# Altium schematic symbol library Miscellaneous Silicon.SchLib: 38 symbols
Pins are listed as number, name and electrical type; pins without a type are passive.

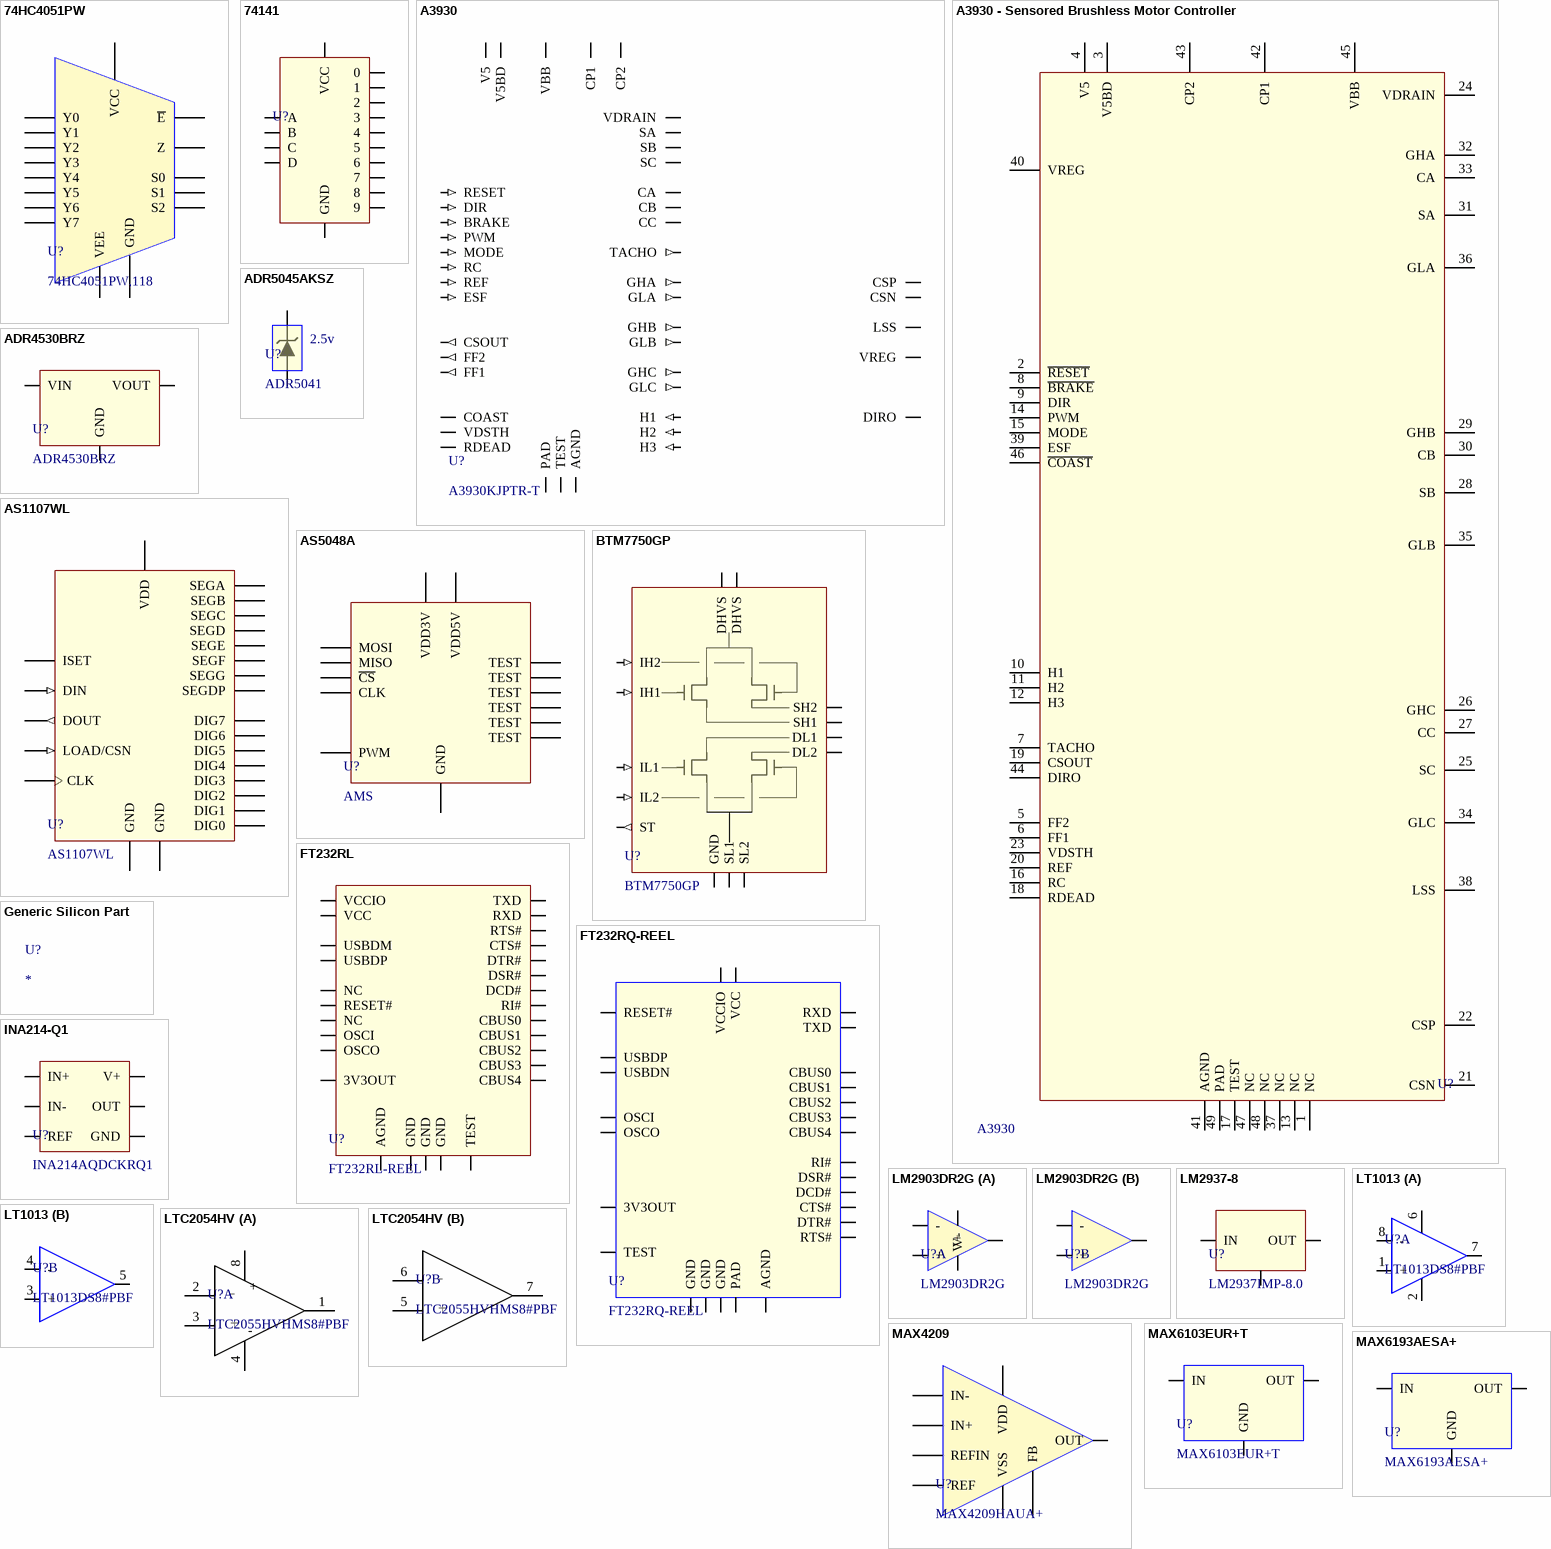
[diagram p0: symbols 74HC4051PW to MAX6193AESA+]

## 74HC4051PW
designator U?, comment 74HC4051PW,118
8:1 MUX/DEMUX; LOAD: NL; MFG: NXP; BANDWIDTH: 180MHz; MFG_PN: 74HC4051PW,118
footprint TSSOP16 (0.65mm Pitch)
pins: 1 Y4, 2 Y6, 3 Z, 4 Y7, 5 Y5, 6 ~{E}, 7 VEE, 8 GND, 9 S2, 10 S1, 11 S0, 12 Y3, 13 Y0, 14 Y1, 15 Y2, 16 VCC

## 74141
designator U?
Cold Cathode Tube Driver
footprint DIP16 (DIP; 16 Leads; Row Spacing 7.62 mm; Pitch 2.54 mm)
pins: 1 8, 2 9, 3 A, 4 D, 5 VCC (power), 6 B, 7 C, 8 2, 9 3, 10 7, 11 6, 12 GND (power), 13 4, 14 5, 15 1, 16 0

## A3930
designator U?, comment A3930KJPTR-T
BLDC Driver; MFG: ALEGRO MICROSYSTEMS; MFG_PN: A3930KJPTR-T; HelpURL: C:\Users\rharvey\Documents\Master Altium Library\Datasheets\A3930_BLDC DRIVER_ALLEGRO.pdf
pins: 1 NC hidden, 2 RESET (in), 3 V5BD, 4 V5, 5 FF2 (out), 6 FF1 (out), 7 TACHO (out), 8 BRAKE (in), 9 DIR (in), 10 H1 (in), 11 H2 (in), 12 H3 (in), 13 NC hidden, 14 PWM (in), 15 MODE (in), 16 RC (in), 17 TEST, 18 RDEAD, 19 CSOUT (out), 20 REF (in), 21 CSN, 22 CSP, 23 VDSTH, 24 VDRAIN, 25 SC, 26 GHC (out), 27 CC, 28 SB, 29 GHB (out), 30 CB, 31 SA, 32 GHA (out), 33 CA, 34 GLC (out), 35 GLB (out), 36 GLA (out), 37 NC hidden, 38 LSS, 39 ESF (in), 40 VREG, 41 AGND, 42 CP1, 43 CP2, 44 DIRO, 45 VBB, 46 COAST, 47 NC hidden, 48 NC hidden, 49 PAD

## A3930 - Sensored Brushless Motor Controller
designator U?  MFG1_PN: A3930  (hidden comment: A3930 - Sensored Brushless Motor Controller)
SAP: 1052642-00-A; MFG1: Allegro; Supplier 1: Digi-Key; Supplier Part Number 1: A3930KJP-T-ND
footprint QFP50P900X900X160-49N (JEDEC MS-026 BBCHD (ALLEGRO JP 48pin LQFP W/Thermal Pad))
pins: 1 NC, 2 ~{RESET}, 3 V5BD, 4 V5, 5 FF2, 6 FF1, 7 TACHO, 8 ~{BRAKE}, 9 DIR, 10 H1, 11 H2, 12 H3, 13 NC, 14 PWM, 15 MODE, 16 RC, 17 TEST, 18 RDEAD, 19 CSOUT, 20 REF, 21 CSN, 22 CSP, 23 VDSTH, 24 VDRAIN, 25 SC, 26 GHC, 27 CC, 28 SB, 29 GHB, 30 CB, 31 SA, 32 GHA, 33 CA, 34 GLC, 35 GLB, 36 GLA, 37 NC, 38 LSS, 39 ESF, 40 VREG, 41 AGND, 42 CP1, 43 CP2, 44 DIRO, 45 VBB, 46 ~{COAST}, 47 NC, 48 NC, 49 PAD

## ADR4530BRZ
designator U?
Precision 3v Voltage Reference; LOAD: NL; VIN_MAX: 16v; ACCURACY: 600uV; MFG: ANALOG_DEVICES; MFG_PN: ADR4530BRZ; VOUT: 3v
footprint SOIC-8
pins: 1 NC hidden, 2 VIN, 3 NC hidden, 4 GND, 5 NC hidden, 6 VOUT, 7 NC hidden, 8 TP hidden

## ADR5045AKSZ
designator U?, comment ADR5041  VOLTAGE: 2.5v
Precision 5v Reference; LOAD: NL; MFG: ANALOG DEVICES; IMIN: 15uA; IMAX: 15mA; MFG_PN: ADR5041BKSZ-REEL7
footprint SOT23-3M
pins: 1 A, 2 K, 3 NC hidden

## AS1107WL
designator U?
SPI Controlled 7-Segment Display; MFG_PN: AS1107WL; AMS: AMS
footprint SOIC24
pins: 1 DIN (in), 2 DIG0, 3 DIG4, 4 GND, 5 DIG6, 6 DIG2, 7 DIG3, 8 DIG7, 9 GND, 10 DIG5, 11 DIG1, 12 LOAD/CSN (in), 13 CLK, 14 SEGA, 15 SEGF, 16 SEGB, 17 SEGG, 18 ISET, 19 VDD, 20 SEGC, 21 SEGE, 22 SEGDP, 23 SEGD, 24 DOUT (out)

## AS5048A
designator U?, comment AMS
14bit Rotational Hall Effect Sensor; MFG_PN: AS5048A-HTSP-500; MFG: AMS
footprint TSSOP14 (0.65mm Pitch)
pins: 1 ~{CS}, 2 CLK, 3 MISO, 4 MOSI, 5 TEST, 6 TEST, 7 TEST, 8 TEST, 9 TEST, 10 TEST, 11 VDD5V, 12 VDD3V, 13 GND, 14 PWM

## BTM7750GP
designator U?
H-Bridge_40v_12A; MFG: INFINEON; RDSON_MAX: 115m; MAX_CURRENT: 12A; VMAX: 40v; MFG_PN: BTM7750GP
footprint P-TO263-15-1
pins: 1 IL1 (in), 2 NC hidden, 3 SL1, 4 NC hidden, 5 SH1, 6 GND, 7 IH1 (in), 8 DHVS, 9 ST (out), 10 IH2 (in), 11 SH2, 12 NC hidden, 13 IL2 (in), 14 NC hidden, 15 SL2, 16 DL2, 17 DHVS, 18 DL1

## FT232RL
designator U?, comment FT232RL-REEL
UART Interface/Bridge; MFG: FTDI; MFG_PN: FT232RL-REEL
footprint SSOP-28
pins: 1 TXD, 2 DTR#, 3 RTS#, 4 VCCIO, 5 RXD, 6 RI#, 7 GND, 8 NC, 9 DSR#, 10 DCD#, 11 CTS#, 12 CBUS4, 13 CBUS2, 14 CBUS3, 15 USBDP, 16 USBDM, 17 3V3OUT, 18 GND, 19 RESET#, 20 VCC, 21 GND, 22 CBUS1, 23 CBUS0, 24 NC, 25 AGND, 26 TEST, 27 OSCI, 28 OSCO

## FT232RQ-REEL
designator U?
UART Interface/Bridge; MFG: FTDI; MFG_PN: FT232RQ-REEL
footprint QFN32
pins: 0 PAD, 1 VCCIO, 2 RXD, 3 RI#, 4 GND, 5 NC hidden, 6 DSR#, 7 DCD#, 8 CTS#, 9 CBUS4, 10 CBUS2, 11 CBUS3, 12 NC hidden, 13 NC hidden, 14 USBDP, 15 USBDN, 16 3V3OUT, 17 GND, 18 RESET#, 19 VCC, 20 GND, 21 CBUS1, 22 CBUS0, 23 NC hidden, 24 AGND, 25 NC hidden, 26 TEST, 27 OSCI, 28 OSCO, 29 NC hidden, 30 TXD, 31 DTR#, 32 RTS#

## Generic Silicon Part
designator U?
MFG: *; MFG_PN: *; FUNCTION: *

## INA214-Q1
designator U?, comment INA214AQDCKRQ1
Current Shunt Monitor; MFG: TI; VMAX: 26v; MFG_PN: INA214AQDCKRQ1
footprint SOT23-6
pins: 1 REF, 2 GND, 3 V+, 4 IN+, 5 IN-, 6 OUT

## LM2903DR2G
designator U?
Dual Comparator - Open Collector; MFG: ON SEMI; VMAX: 36v; VMIN: 2v; MFG_PN: LM2903DR2G; FUNCTION: *
footprint SOIC-8
part A pins: 1 OUT1, 2 -, 3 +, 4 V-, 8 V+
part B pins: 5 +, 6 -, 7 OUT

## LM2937-8
designator U?, comment LM2937IMP-8.0
LDO_8v Fixed_500mA; MFG: TI; IMAX: 500mA; VOUT: 8v; LOAD: NL; MFG_PN: LM2937IMP-8.0
footprint SOT223
pins: 1 IN, 2 GND, 3 OUT, 4

## LT1013
designator U?, comment LT1013DS8#PBF
Op-Amp_Dual_Single/Dual Supply; MFG: LINEAR TECHNOLOGY; MFG_PN: LT1013DS8#PBF
footprint SOIC-8
part A pins: 1 +, 2 V-, 6 V+, 7 OUTA, 8 -
part B pins: 3 +, 4 -, 5 OUTB

## LTC2054HV
designator U?, comment LTC2055HVHMS8#PBF
Low Offset, Chopper Stabilized Amplifier; MFG: LINEAR TECHNOLOGY; GAIN_BANDWIDTH: 500kHz; SINGLE_SUPPLY: YES; MFG_PN: LTC2055HVHMS8#PBF
part A pins: 1 OUT A, 2 IN-, 3 IN+, 4 V-, 8 V+
part B pins: 5 IN+, 6 IN-, 7 OUT A
part A text: +; -
part B text: -; +

## MAX4209
designator U?, comment MAX4209HAUA+
Instrumentation Amplifier; MFG: MAXIM; GBP: 750KhZ; IN_BIAS_CURRENT: 1pA; IN_OFFSET_VOLTAGE: 3uV; GAIN: 100V/V; IOUT_MAX: 25mA; I_QUIESCENT: 3mA; MFG_PN: MAX4209HAUA+
footprint uMAX8
pins: 1 REFIN, 2 IN-, 3 IN+, 4 VSS, 5 REF, 6 FB, 7 OUT, 8 VDD

## MAX6103EUR+T
designator U?
Precision 3v Reference; MFG: MAXIM; ACCURACY: 0.4%; LOAD: NL; MFG_PN: MAX6103EUR+T; VOUT: 3v
footprint SOT23-3M
pins: 1 IN, 2 OUT, 3 GND

## MAX6193AESA+
designator U?
Precision 3v Reference; MFG: MAXIM; ACCURACY: 0.066%; LOAD: NL; MFG_PN: MAX6193AESA+; VOUT: 3v
footprint SOIC-8 Narrow
pins: 1 NC hidden, 2 IN, 3 NC hidden, 4 GND, 5 NC hidden, 6 OUT, 7 NC hidden, 8 NC hidden

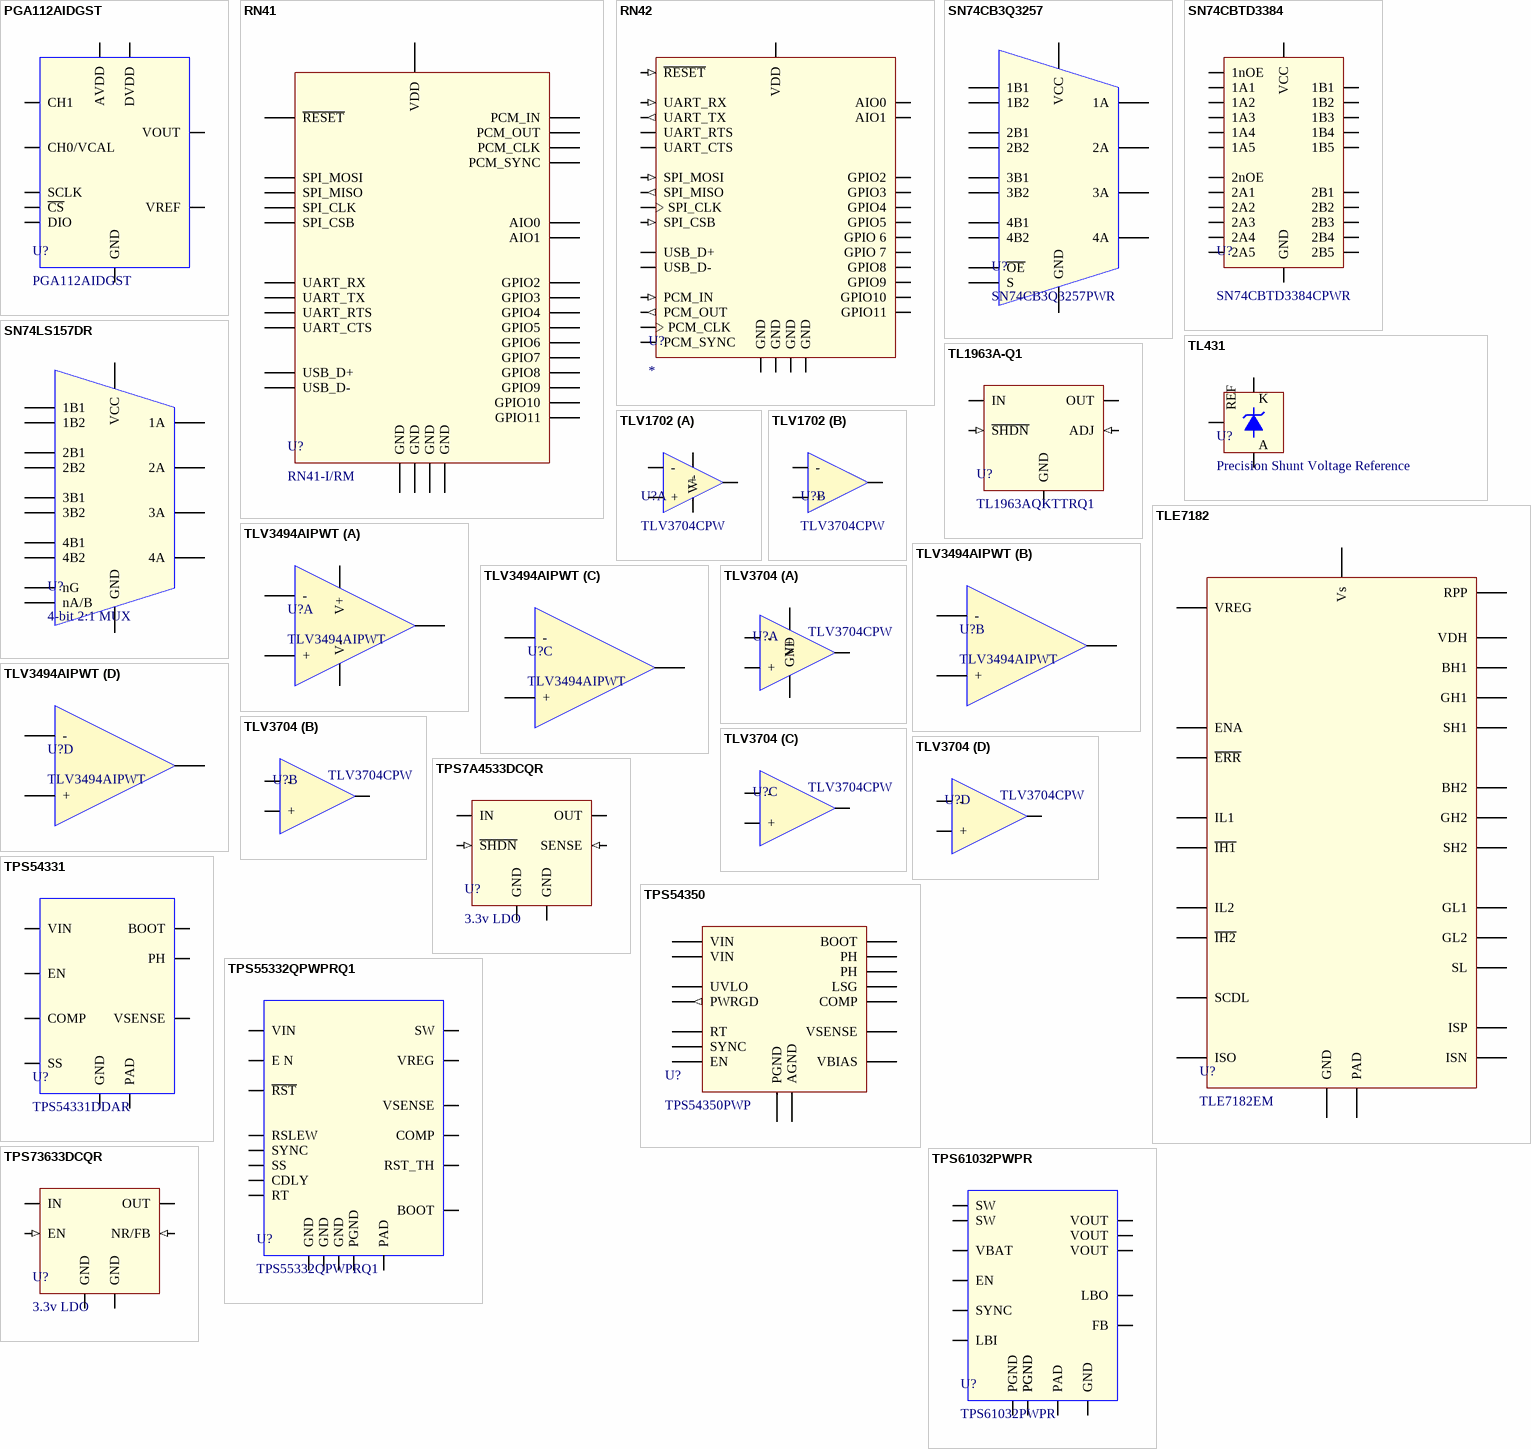
[diagram p1: symbols PGA112AIDGST to TPS73633DCQR]

## PGA112AIDGST
designator U?
Inst Amp with PGA and SPI; MFG: TI; FUNCTION: INST_AMP; MFG_PN: PGA112AIDGST
footprint VSSOP-10
pins: 1 AVDD, 2 CH1, 3 CH0/VCAL, 4 VREF, 5 VOUT, 6 GND, 7 SCLK, 8 DIO, 9 ~{CS}, 10 DVDD

## RN41
designator U?, comment RN41-I/RM
2.4GHz Class 1 Bluetooth Module; MFG: MICROCHIP; MFG_PN: RN41-I/RM
footprint RN41 (2.4GHz Class 1 Bluetooth Module)
pins: 1 GND, 2 SPI_MOSI, 3 GPIO6, 4 GPIO7, 5 ~{RESET}, 6 SPI_CLK, 7 PCM_CLK, 8 PCM_SYNC, 9 PCM_IN, 10 PCM_OUT, 11 VDD, 12 GND, 13 UART_RX, 14 UART_TX, 15 UART_RTS, 16 UART_CTS, 17 USB_D+, 18 USB_D-, 19 GPIO2, 20 GPIO3, 21 GPIO5, 22 GPIO4, 23 SPI_CSB, 24 SPI_MISO, 28 GND, 29 GND, 30 AIO0, 31 GPIO8, 32 GPIO9, 33 GPIO10, 34 GPIO11, 35 AIO1

## RN42
designator U?
Bluetooth Module; MFG: Roving Networks; MFG_PN: RN42-I/RM
footprint RN42 Bluetooth Module
pins: 1 GND (power), 2 SPI_MOSI (in), 3 GPIO 6, 4 GPIO 7, 5 ~{RESET} (in), 6 SPI_CLK, 7 PCM_CLK, 8 PCM_SYNC, 9 PCM_IN (in), 10 PCM_OUT (out), 11 VDD (power), 12 GND (power), 13 UART_RX (in), 14 UART_TX (out), 15 UART_RTS, 16 UART_CTS, 17 USB_D+ (io), 18 USB_D- (io), 19 GPIO2, 20 GPIO3, 21 GPIO5, 22 GPIO4, 23 SPI_CSB (in), 24 SPI_MISO (out), 28 GND (power), 29 GND (power), 30 AIO0, 31 GPIO8, 32 GPIO9, 33 GPIO10, 34 GPIO11, 35 AIO1

## SN74CB3Q3257
designator U?, comment SN74CB3Q3257PWR
Bi-directional 4-bit 2:1 MUX (3.3v); MFG: TI; MFG_PN: SN74CB3Q3257PWR; FUNCTION: 4-bit 2:1 MUX; OP_VOLTAGE: 3.3v
footprint TSSOP16 (0.65mm Pitch)
pins: 1 S, 2 1B1, 3 1B2, 4 1A, 5 2B1, 6 2B2, 7 2A, 8 GND (power), 9 3A, 10 3B2, 11 3B1, 12 4A, 13 4B2, 14 4B1, 15 ~{OE}, 16 VCC (power)

## SN74CBTD3384
designator U?, comment MFG_PN: SN74CBTD3384CPWR  (hidden comment: 10-bit FET Bus Switch)
10-bit FET Data Bus; MFG: TI; FUNCTION: 10-bit FET Bus Switch
footprint TSSOP24
pins: 1 1nOE, 2 1B1, 3 1A1, 4 1A2, 5 1B2, 6 1B3, 7 1A3, 8 1A4, 9 1B4, 10 1B5, 11 1A5, 12 GND (power), 13 2nOE, 14 2A1, 15 2B1, 16 2B2, 17 2A2, 18 2A3, 19 2B3, 20 2B4, 21 2A4, 22 2A5, 23 2B5, 24 VCC (power)

## SN74LS157DR
designator U?, comment 4-bit 2:1 MUX
4-bit 2:1 MUX (5v); MFG: TI; MFG_PN: SN74LS157DR; FUNCTION: 4-bit 2:1 MUX; OP_VOLTAGE: 5v
footprint SOIC16 (1.27mm Pitch)
pins: 1 nA/B, 2 1B1, 3 1B2, 4 1A, 5 2B1, 6 2B2, 7 2A, 8 GND (power), 9 3A, 10 3B2, 11 3B1, 12 4A, 13 4B2, 14 4B1, 15 nG, 16 VCC (power)

## TL431
designator U?, comment Precision Shunt Voltage Reference
Voltage Reference; MFG: TI; MFG_PN: TL431BCDBZR; FUNCTION: Precision Shunt Voltage Reference
footprint SOT23-3M
pins: 1 K (power), 2 REF (power), 3 A (power)

## TL1963A-Q1
designator U?, comment TL1963AQKTTRQ1
1.5A Adjustable LDO; MFG: TI; AEC_QUALIFIED: YES; MFG_PN: TL1963AQKTTRQ1; CURRENT: 1.5A
footprint D2PAK-5
pins: 1 ~{SHDN} (in), 2 IN, 3 GND, 4 OUT, 5 ADJ (in)

## TLE7182
designator U?, comment TLE7182EM
Full Bridge Gate Driver; MFG: INFINEON; LOAD: NL; MFG_PN: TLE7182EM
footprint PG-SSOP24
pins: 1 BH2, 2 GH2, 3 SH2, 4 GL2, 5 VDH, 6 RPP, 7 Vs, 8 VREG, 9 ENA, 10 ISN, 11 ISP, 12 ISO, 13 ~{IH2}, 14 IL2, 15 ~{IH1}, 16 IL1, 17 ~{ERR}, 18 SCDL, 19 GND, 20 SL, 21 GL1, 22 SH1, 23 GH1, 24 BH1, 25 PAD

## TLV1702
designator U?, comment TLV3704CPW
Dual Comparator; LOAD: NL; MFG: TI; VMAX: 36v; VMIN: 2.5v; OUPUT: Open Collector; MFG_PN: TLV3704CPW
footprint VSSOP8 (3.1x3.1mm)
part A pins: 1 OUT1, 2 -, 3 +, 4 V- (power), 8 V+ (power)
part B pins: 5 +, 6 -, 7 OUT2

## TLV3494AIPWT
designator U?
Quad Comparator - Push-Pull Output; MFG: TI; CHANNELS: 4; LOAD: NL; VMAX: 5.5v; MFG_PN: TLV3494AIPWT
footprint TSSOP14 (0.65mm Pitch)
part A pins: 1 OUTA, 2 -, 3 +, 4 V+, 11 V-
part B pins: 5 +, 6 -, 12 OUTB
part C pins: 8 OUTC, 9 -, 10 +
part D pins: 12 +, 13 -, 14 OUTD

## TLV3704
designator U?, comment MFG_PN: TLV3704CPW  (hidden comment: Quad Comparator)
Quad Comparator - Push-Pul; MFG: TI; FUNCTION: Quad Comparator
footprint TSSOP14 (0.65mm Pitch)
part A pins: 1 OUT1, 2 -, 3 +, 4 V+ (power), 11 GND (power)
part B pins: 5 +, 6 -, 7 OUT2
part C pins: 8 OUT3, 9 -, 10 +
part D pins: 12 +, 13 -, 14 OUT4

## TPS7A4533DCQR
designator U?, comment 3.3v LDO
MFG: TI; MFG_PN: TPS7A4533DCQR; FUNCTION: 3.3v LDO
footprint SOT-223-6
pins: 1 ~{SHDN} (in), 2 IN (power), 3 GND (power), 4 OUT (power), 5 SENSE (in), 6 GND (power)

## TPS54331
designator U?, comment TPS54331DDAR
Buck Converter - Adj. Output - 3A Max; MFG: TI; VOUT: ADJ; VIN_MAX: 28v; LOAD: NL; MFG_PN: TPS54331DDAR; CURRENT: 3A
footprint HSOP-8
pins: 1 BOOT, 2 VIN, 3 EN, 4 SS, 5 VSENSE, 6 COMP, 7 GND, 8 PH, 9 PAD

## TPS54350
designator U?, comment TPS54350PWP
4.5v-20v Input, 3A Output Synchronous PWM Switching Buck Converter; MFG: TI; V_INPUT: 4.5-20v; MFG_PN: TPS54350PWP; I_MAX: 3A
footprint HTSSOP16 (0.65mm Pitch)
pins: 0 PAD hidden to GND, 1 VIN, 2 VIN, 3 UVLO, 4 PWRGD (out) "Open Drain", 5 RT, 6 SYNC, 7 EN, 8 COMP, 9 VSENSE, 10 AGND, 11 PGND, 12 VBIAS, 13 LSG, 14 PH, 15 PH, 16 BOOT

## TPS55332QPWPRQ1
designator U?
Boost Converter - Wide Input Voltage; LOAD: NL; MFG: TI; VIN_MAX: 40v; VIN_MIN: 1.5v; VOUT_MAX: 50V; VOUT_MIN: 2.5v; SWITCH_CURRENT: 5.7A; MFG_PN: TPS55332QPWPRQ1
footprint HTSSOP-20
pins: 0 PAD, 1 NC hidden to GND, 2 NC hidden to GND, 3 SYNC, 4 GND, 5 E N, 6 RT, 7 RSLEW, 8 ~{RST}, 9 CDLY, 10 GND, 11 SS, 12 GND, 13 RST_TH, 14 VSENSE, 15 COMP, 16 VREG, 17 PGND, 18 SW, 19 VIN, 20 BOOT

## TPS61032PWPR
designator U?
Boost Converter - 5v Output - 1A; LOAD: NL; MFG: TI; VIN_MAX: 5.5v; VIN_MIN: 1.8V; MFG_PN: TPS61032PWPR; CURRENT: 1A; VOUT: 5v
footprint HTSSOP16 (0.65mm Pitch)
pins: 0 PAD, 1 SW, 2 SW, 3 PGND, 4 PGND, 5 PGND, 6 VBAT, 7 LBI, 8 SYNC, 9 EN, 10 LBO, 11 GND, 12 FB, 13 VOUT, 14 VOUT, 15 VOUT, 16 NC hidden

## TPS73633DCQR
designator U?, comment 3.3v LDO
MFG: TI; MFG_PN: TPS73633DCQR; FUNCTION: 3.3v LDO
footprint SOT-223-6
pins: 1 IN (power), 2 OUT (power), 3 GND (power), 4 NR/FB (in), 5 EN (in), 6 GND (power)